# EAGLE library part 4N25 (library custom_lib)
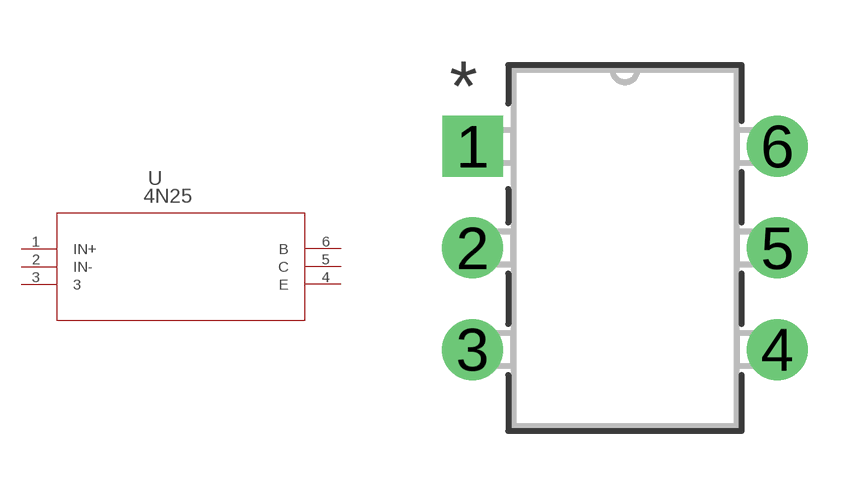
[diagram p2: symbol with the pads of DIP6_300; footprint DIP6_300]

Designator prefix U

## 4N25 (MANUFACTURER_PART_NUMBER: 4N25; VENDOR: Linear Technology)  [DIP6_300]
1  IN+  pas
2  IN-  pas
3  3  pas
4  E  pas
5  C  pas
6  B  pas

## Footprint DIP6_300 (pad centres in mm)
drill 0.813 pad 1.524 square: 1 -7.62,5.08
drill 0.813 pad 1.524: 2 -7.62,2.54; 3 -7.62,0; 4 0,0; 5 0,2.54; 6 0,5.08